# Altium schematic symbol library NAATOS_PCB_HEATERS.SchLib: 1 symbol
Pins are listed as number, name and electrical type; pins without a type are passive.

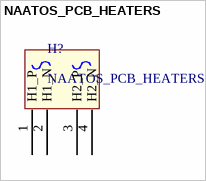
[diagram p0: symbol NAATOS_PCB_HEATERS]

## NAATOS_PCB_HEATERS
designator H?
footprint rev1 (valve heater: 3 mil, 4.93 x 10mm / amp heater: 6 mil, 25.02 x 10mm)
footprint REV5
pins: 1 H1_P, 2 H1_N, 3 H2_P, 4 H2_N